# EAGLE library part 7_DARLINGTON_ARRAY (library walthour)
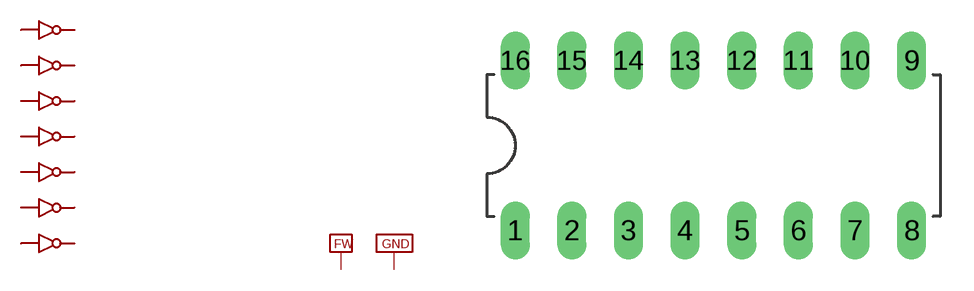
[diagram p1: symbol with the pads of 16DIP; footprint 16DIP]

Designator prefix -; gates G$1=INVERTER G$2=INVERTER G$3=INVERTER G$4=INVERTER G$5=INVERTER G$6=INVERTER G$7=INVERTER G$8=COMMON_FW G$9=COMMON_GND

## 7_DARLINGTON_ARRAY  [16DIP]
1  G$1:IN
2  G$2:IN
3  G$3:IN
4  G$4:IN
5  G$5:IN
6  G$6:IN
7  G$7:IN
8  G$9:GND
9  G$8:FW
10  G$7:OUT
11  G$6:OUT
12  G$5:OUT
13  G$4:OUT
14  G$3:OUT
15  G$2:OUT
16  G$1:OUT

## Footprint 16DIP (pad centres in mm)
drill 0.8 long: 1 -8.89,-3.81; 2 -6.35,-3.81; 3 -3.81,-3.81; 4 -1.27,-3.81; 5 1.27,-3.81; 6 3.81,-3.81; 7 6.35,-3.81; 8 8.89,-3.81; 9 8.89,3.81; 10 6.35,3.81; 11 3.81,3.81; 12 1.27,3.81; 13 -1.27,3.81; 14 -3.81,3.81; 15 -6.35,3.81; 16 -8.89,3.81